# Altium schematic symbol library Resistor - Surface Mount - 0402.SchLib: 1 symbol
Pins are listed as number, name and electrical type; pins without a type are passive.

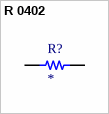
[diagram p0: symbol R 0402]

## R 0402
designator R?
pins: 1, 2